# Altium footprint library TMAG5231A2DQDMRR.PcbLib: 3 footprints
Each footprint in its own frame and in the unit in brackets; x right, y up, seen from the top. Pads: shape width x height; smd on the part's side, far side on the other; paste and mask are expansions set on the pad; w line width, h text height; cw(c..) or ccw(c..) is an arc to the next point about the centre after c.
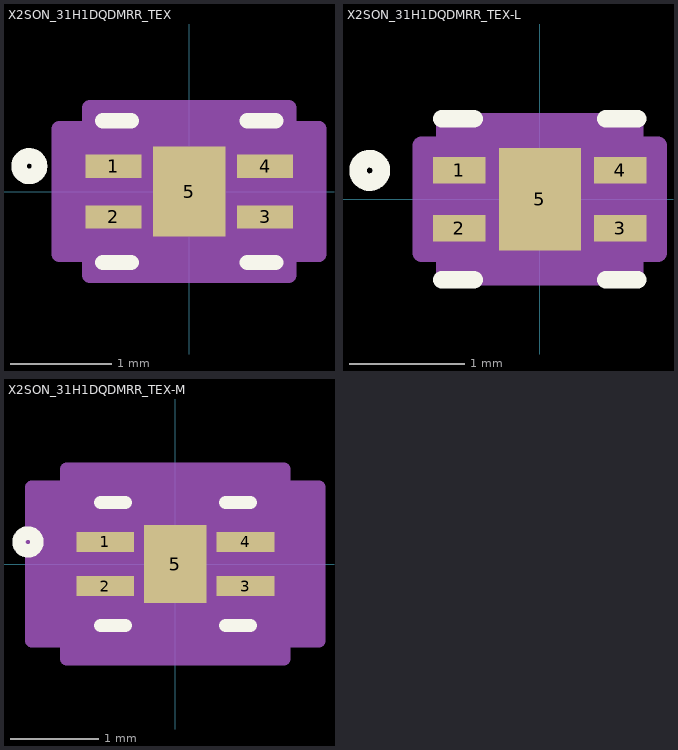
[diagram p0: the footprints below, top view; thin cyan lines are the x and y axes]

## X2SON_31H1DQDMRR_TEX [mil]
pads (5):
  rect 21.81x9.03 smd paste+0 mask+0: 1(-29.41,9.85) 2(-29.41,-9.85) 3(29.41,-9.85) 4(29.41,9.85)
  rect 28x35 smd paste+0 mask+0: 5(0,0)
Top Overlay:
  circle w6: c-62,9.85 r4
  lines w6: -33.5,-27.5 -22.46,-27.5 ; -33.5,27.5 -22.46,27.5 ; 22.46,-27.5 33.5,-27.5 ; 22.46,27.5 33.5,27.5
  text ".Designator" at -137.5,-25 h50
Mechanical 13:
  circle w1: c-18.5,9.85 r3
  lines w1: -12,22.5 ccw(c0,22.5) 12,22.5 ; -28.5,-22.5 -28.5,22.5 28.5,22.5 28.5,-22.5 -28.5,-22.5
  text ".Designator" at -137.5,-25 h50
Mechanical 15:
  region: -38.5,-24.36 -50.31,-24.36 -50.31,24.36 -38.5,24.36 -38.5,32.5 38.5,32.5 38.5,24.36 50.31,24.36 50.31,-24.36 38.5,-24.36 38.5,-32.5 -38.5,-32.5
  lines w6: -50.31,-24.36 -38.5,-24.36 -38.5,-32.5 38.5,-32.5 38.5,-24.36 50.31,-24.36 50.31,24.36 38.5,24.36 38.5,32.5 -38.5,32.5 -38.5,24.36 -50.31,24.36 -50.31,-24.36
3D body "X2SON_31H1DQDMRR_TEX.step": height 16.1, standoff 0, extent -28.5,-22.52 28.5,22.52

## X2SON_31H1DQDMRR_TEX-L [mil]
pads (5):
  rect 17.87x9.03 smd paste+0 mask+0: 1(-27.44,9.85) 2(-27.44,-9.85) 3(27.44,-9.85) 4(27.44,9.85)
  rect 28x35 smd paste+0 mask+0: 5(0,0)
Top Overlay:
  circle w6: c-58.06,9.85 r4
  lines w6: -33.5,-27.5 -22.46,-27.5 ; -33.5,27.5 -22.46,27.5 ; 22.46,-27.5 33.5,-27.5 ; 22.46,27.5 33.5,27.5
  text ".Designator" at -137.5,-25 h50
Mechanical 13:
  circle w1: c-18.5,9.85 r3
  lines w1: -12,22.5 ccw(c0,22.5) 12,22.5 ; -28.5,-22.5 28.5,-22.5 28.5,22.5 -28.5,22.5 -28.5,-22.5
  text ".Designator" at -137.5,-25 h50
Mechanical 15:
  region: -32.5,-18.36 -40.37,-18.36 -40.37,18.36 -32.5,18.36 -32.5,26.5 32.5,26.5 32.5,18.36 40.37,18.36 40.37,-18.36 32.5,-18.36 32.5,-26.5 -32.5,-26.5
  lines w6: -40.37,-18.36 -40.37,18.36 -32.5,18.36 -32.5,26.5 32.5,26.5 32.5,18.36 40.37,18.36 40.37,-18.36 32.5,-18.36 32.5,-26.5 -32.5,-26.5 -32.5,-18.36 -40.37,-18.36
3D body "X2SON_31H1DQDMRR_TEX.step": height 16.1, standoff 0, extent -28.5,-22.52 28.5,22.52

## X2SON_31H1DQDMRR_TEX-M [mil]
pads (5):
  rect 25.75x9.03 smd paste+0 mask+0: 1(-31.37,9.85) 2(-31.37,-9.85) 3(31.37,-9.85) 4(31.37,9.85)
  rect 28x35 smd paste+0 mask+0: 5(0,0)
Top Overlay:
  circle w6: c-65.94,9.85 r4
  lines w6: -33.5,-27.5 -22.46,-27.5 ; -33.5,27.5 -22.46,27.5 ; 22.46,-27.5 33.5,-27.5 ; 22.46,27.5 33.5,27.5
  text ".Designator" at -137.5,-25 h50
Mechanical 13:
  circle w1: c-18.5,9.85 r3
  lines w1: -12,22.5 ccw(c0,22.5) 12,22.5 ; -28.5,-22.5 28.5,-22.5 28.5,22.5 -28.5,22.5 -28.5,-22.5
  text ".Designator" at -137.5,-25 h50
Mechanical 15:
  region: -48.5,-34.36 -64.25,-34.36 -64.25,34.36 -48.5,34.36 -48.5,42.5 48.5,42.5 48.5,34.36 64.25,34.36 64.25,-34.36 48.5,-34.36 48.5,-42.5 -48.5,-42.5
  lines w6: -64.25,-34.36 -64.25,34.36 -48.5,34.36 -48.5,42.5 48.5,42.5 48.5,34.36 64.25,34.36 64.25,-34.36 48.5,-34.36 48.5,-42.5 -48.5,-42.5 -48.5,-34.36 -64.25,-34.36
3D body "X2SON_31H1DQDMRR_TEX.step": height 16.1, standoff 0, extent -28.5,-22.52 28.5,22.52